# Altium schematic symbol library BAS3007ARPPE6327HTSA1.SchLib: 1 symbol
Pins are listed as number, name and electrical type; pins without a type are passive.

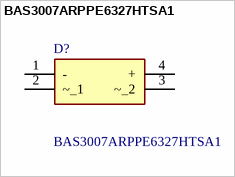
[diagram p0: symbol BAS3007ARPPE6327HTSA1]

## BAS3007ARPPE6327HTSA1
designator D?
Infineon BAS3007ARPPE6327HTSA1 SMT Schottky Diode, 30V 900mA, 4-Pin SOT-143; Mouser Part Number: 726-BAS3007A-RPPE6; Mouser Price/Stock: https://www.mouser.co.uk/ProductDetail/Infineon-Technologies/BAS3007ARPPE6327HTSA1?qs=OwbwYO03UsIpevUvLWxseg%3D%3D; Manufacturer_Name: Infineon; Manufacturer_Part_Number: BAS3007ARPPE6327HTSA1; Datasheet Link: https://www.mouser.co.uk/datasheet/2/196/Infineon-BAS3007ASERIES-DS-v01_01-en-1225497.pdf
footprint BF998215
pins: 1 -, 2 ~_1, 3 ~_2, 4 +